# Altium integrated library NXP Microcontrollers ARM7.IntLib: 82 symbols (part 2 of 11)
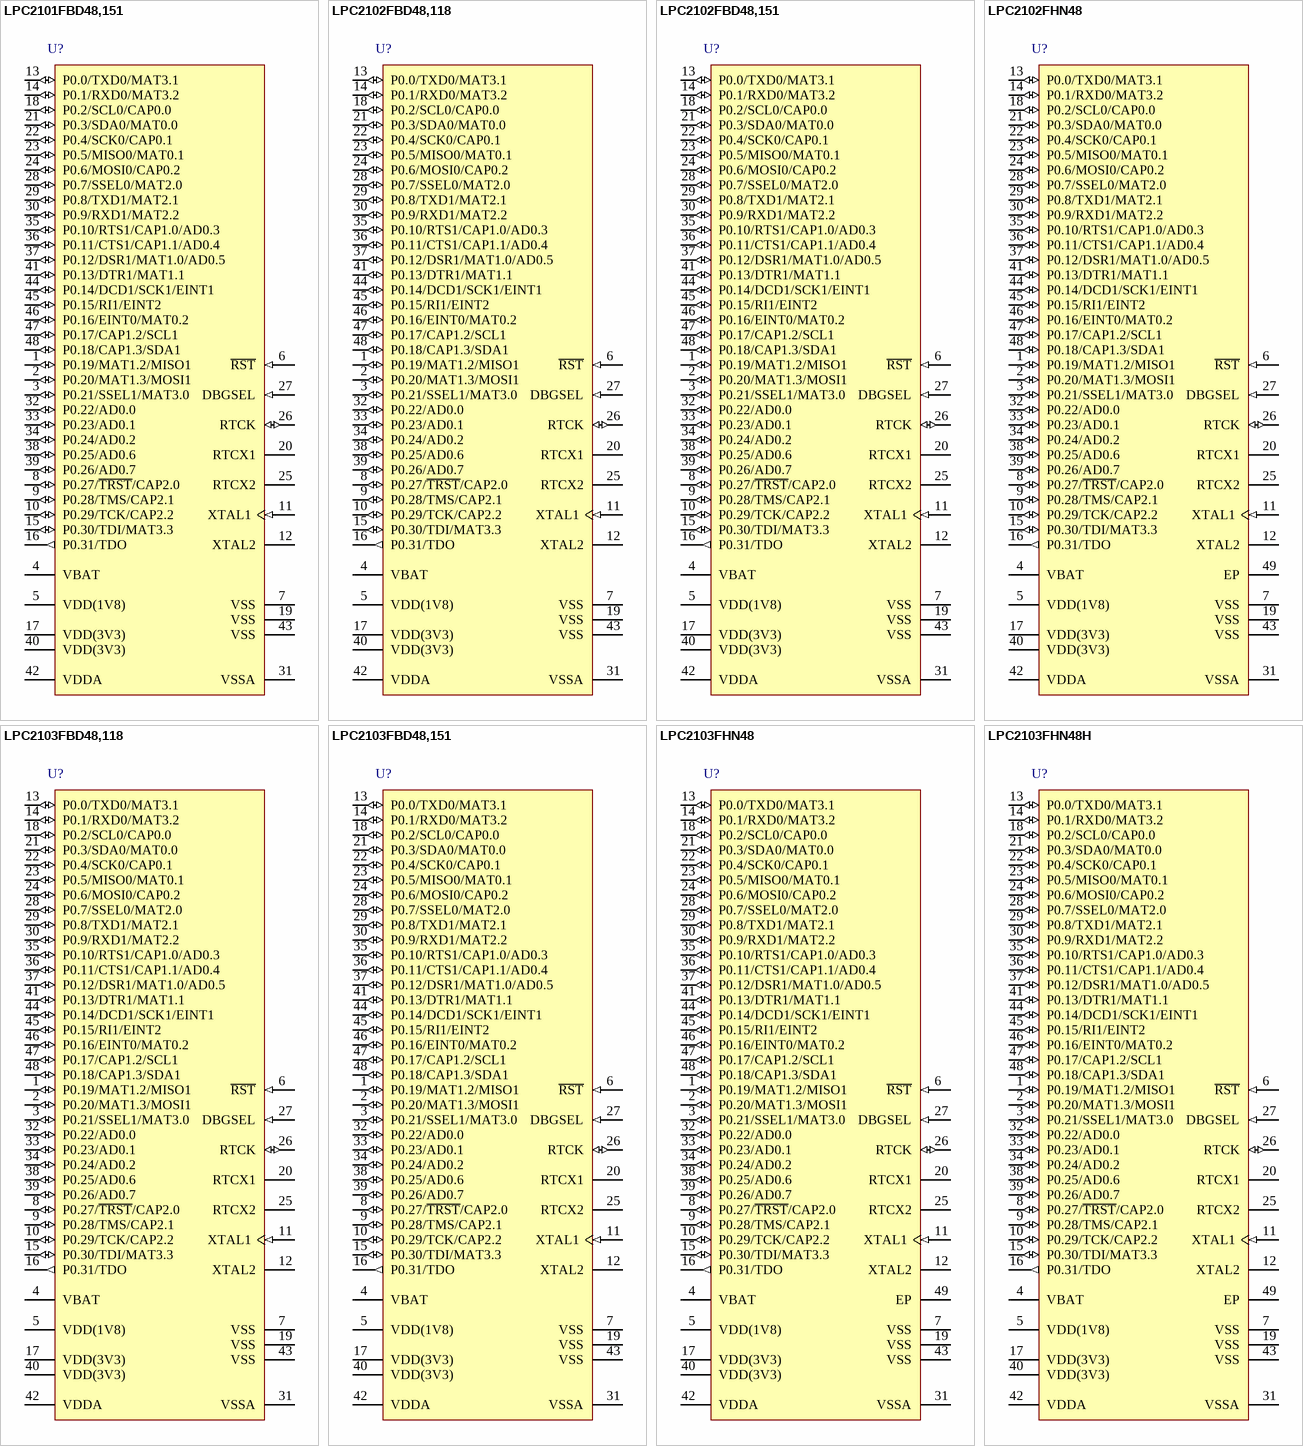
[diagram p36: symbols LPC2101FBD48,151 to LPC2103FHN48H]

## LPC2101FBD48,151
designator U?
16/32-bit ARM7 Microcontroller, 32 I/O, 8 kB Flash, 2 kB SRAM, -40 to 85 degC, 48-Pin LQFP, Tray; Manufacturer: NXP Semiconductors; PartNumber: LPC2101FBD48,151; # of timers: 4; ADC (bits): 10; ADC Channels: 8; fmax [max] (MHz): 70; I/O Pins: 32; I2C: 2; PLL: TRUE; PWM: 14; SPI: 1; Timer (bits): 16/32; DatasheetVersion: Rev. 04; PackageVersion: Feb-03; PackageReference: SOT313-2; PackageDescription: 48-Pin Plastic Low Profile Quad Flat Package, Body 7 x 7 mm, Pitch 0.5 mm; Supplier 1: Digi-Key; Supplier Part Number 1: 568-2092-ND; Supplier 2: Newark; Supplier Part Number 2: 70R5604; Supplier 3: Mouser; Supplier Part Number 3: 771-LPC2101FBD48-S; Core: ARM7; Flash (KB): 8; Packing: Tray; RAM (KB): 2; SSP: 1; UART: 2; Mounting Technology: Surface Mount; Code_JEDEC: MS-026; ComponentLink1Description: Manufacturer URL; ComponentLink1URL: http://www.nxp.com/; ComponentLink2Description: Datasheet; ComponentLink2URL: http://www.nxp.com/documents/data_sheet/LPC2101_02_03.pdf; ComponentLink3Description: Package Specification; ComponentLink3URL: http://www.nxp.com/documents/outline_drawing/sot313-2_po.pdf
footprint NXP-SOT313-2_V (QFP, 48-Leads, Body 7x7mm, Pitch 0.5mm)
pins: 1 P0.19/MAT1.2/MISO1 (io), 2 P0.20/MAT1.3/MOSI1 (io), 3 P0.21/SSEL1/MAT3.0 (io), 4 VBAT (power) "RTC power supply: 3.3 V on this pin supplies the power to the RTC.", 5 VDD(1V8) (power) "1.8 V core power supply: This is the power supply voltage for internal circuitry and the on-chip PLL.", 6 ~{RST} (in) "External reset input: A LOW on this pin resets the device, causing I/O ports and peripherals to take on their default states and processor execution to begin at address 0. TTL with hysteresis, 5 V tolerant.", 7 VSS (power) "Ground: 0 V reference.", 8 P0.27/~{TRST}/CAP2.0 (io), 9 P0.28/TMS/CAP2.1 (io), 10 P0.29/TCK/CAP2.2 (io), 11 XTAL1 (in) "Input to the oscillator circuit and internal clock generator circuits. Input voltage must not exceed 1.8 V.", 12 XTAL2 "Output from the oscillator amplifier.", 13 P0.0/TXD0/MAT3.1 (io), 14 P0.1/RXD0/MAT3.2 (io), 15 P0.30/TDI/MAT3.3 (io), 16 P0.31/TDO (out), 17 VDD(3V3) (power) "3.3 V pad power supply: This is the power supply voltage for the I/O ports.", 18 P0.2/SCL0/CAP0.0 (io), 19 VSS (power) "Ground: 0 V reference.", 20 RTCX1 "Input to the RTC oscillator circuit. Input voltage must not exceed 1.8 V.", 21 P0.3/SDA0/MAT0.0 (io), 22 P0.4/SCK0/CAP0.1 (io), 23 P0.5/MISO0/MAT0.1 (io), 24 P0.6/MOSI0/CAP0.2 (io), 25 RTCX2 "Output from the RTC oscillator circuit.", 26 RTCK (io) "Returned test clock output: Extra signal added to the JTAG port. Assists debugger synchronization when processor frequency varies. Bidirectional pin with internal pull-up.", 27 DBGSEL (in) "Debug select: When LOW, the part operates normally. When externally pulled HIGH at reset, P0.27 to P0.31 are configured as JTAG port, and the part is in Debug mode[9]. Input with internal pull-down.", 28 P0.7/SSEL0/MAT2.0 (io), 29 P0.8/TXD1/MAT2.1 (io), 30 P0.9/RXD1/MAT2.2 (io), 31 VSSA (power) "Analog ground: 0 V reference. This should be nominally the same voltage as VSS but should be isolated to minimize noise and error.", 32 P0.22/AD0.0 (io), 33 P0.23/AD0.1 (io), 34 P0.24/AD0.2 (io), 35 P0.10/RTS1/CAP1.0/AD0.3 (io), 36 P0.11/CTS1/CAP1.1/AD0.4 (io), 37 P0.12/DSR1/MAT1.0/AD0.5 (io), 38 P0.25/AD0.6 (io), 39 P0.26/AD0.7 (io), 40 VDD(3V3) (power) "3.3 V pad power supply: This is the power supply voltage for the I/O ports.", 41 P0.13/DTR1/MAT1.1 (io), 42 VDDA (power) "Analog 3.3 V power supply: This should be nominally the same voltage as VDD(3V3) but should be isolated to minimize noise and error. The level on this pin also provides a voltage reference level for the ADC.", 43 VSS (power) "Ground: 0 V reference.", 44 P0.14/DCD1/SCK1/EINT1 (io), 45 P0.15/RI1/EINT2 (io), 46 P0.16/EINT0/MAT0.2 (io), 47 P0.17/CAP1.2/SCL1 (io), 48 P0.18/CAP1.3/SDA1 (io)

## LPC2102FBD48,118
designator U?
16/32-bit ARM7 Microcontroller, 32 I/O, 16 kB Flash, 4 kB SRAM, -40 to 85 degC, 48-Pin LQFP, Reel; Manufacturer: NXP Semiconductors; PartNumber: LPC2102FBD48,118; # of timers: 4; ADC (bits): 10; ADC Channels: 8; Flash (KB): 16; fmax [max] (MHz): 70; I/O Pins: 32; I2C: 2; PLL: TRUE; PWM: 14; SPI: 1; Timer (bits): 16/32; DatasheetVersion: Rev. 04; PackageVersion: Feb-03; PackageReference: SOT313-2; PackageDescription: 48-Pin Plastic Low Profile Quad Flat Package, Body 7 x 7 mm, Pitch 0.5 mm; Supplier 1: Digi-Key; Supplier Part Number 1: LPC2102FBD48,118-ND; Supplier 2: Mouser; Supplier Part Number 2: 771-LPC2102FBD48118; Core: ARM7; Packing: Reel; RAM (KB): 4; SSP: 1; UART: 2; Mounting Technology: Surface Mount; Code_JEDEC: MS-026; ComponentLink1Description: Manufacturer URL; ComponentLink1URL: http://www.nxp.com/; ComponentLink2Description: Datasheet; ComponentLink2URL: http://www.nxp.com/documents/data_sheet/LPC2101_02_03.pdf; ComponentLink3Description: Package Specification; ComponentLink3URL: http://www.nxp.com/documents/outline_drawing/sot313-2_po.pdf
footprint NXP-SOT313-2_V (QFP, 48-Leads, Body 7x7mm, Pitch 0.5mm)
pins: 1 P0.19/MAT1.2/MISO1 (io), 2 P0.20/MAT1.3/MOSI1 (io), 3 P0.21/SSEL1/MAT3.0 (io), 4 VBAT (power) "RTC power supply: 3.3 V on this pin supplies the power to the RTC.", 5 VDD(1V8) (power) "1.8 V core power supply: This is the power supply voltage for internal circuitry and the on-chip PLL.", 6 ~{RST} (in) "External reset input: A LOW on this pin resets the device, causing I/O ports and peripherals to take on their default states and processor execution to begin at address 0. TTL with hysteresis, 5 V tolerant.", 7 VSS (power) "Ground: 0 V reference.", 8 P0.27/~{TRST}/CAP2.0 (io), 9 P0.28/TMS/CAP2.1 (io), 10 P0.29/TCK/CAP2.2 (io), 11 XTAL1 (in) "Input to the oscillator circuit and internal clock generator circuits. Input voltage must not exceed 1.8 V.", 12 XTAL2 "Output from the oscillator amplifier.", 13 P0.0/TXD0/MAT3.1 (io), 14 P0.1/RXD0/MAT3.2 (io), 15 P0.30/TDI/MAT3.3 (io), 16 P0.31/TDO (out), 17 VDD(3V3) (power) "3.3 V pad power supply: This is the power supply voltage for the I/O ports.", 18 P0.2/SCL0/CAP0.0 (io), 19 VSS (power) "Ground: 0 V reference.", 20 RTCX1 "Input to the RTC oscillator circuit. Input voltage must not exceed 1.8 V.", 21 P0.3/SDA0/MAT0.0 (io), 22 P0.4/SCK0/CAP0.1 (io), 23 P0.5/MISO0/MAT0.1 (io), 24 P0.6/MOSI0/CAP0.2 (io), 25 RTCX2 "Output from the RTC oscillator circuit.", 26 RTCK (io) "Returned test clock output: Extra signal added to the JTAG port. Assists debugger synchronization when processor frequency varies. Bidirectional pin with internal pull-up.", 27 DBGSEL (in) "Debug select: When LOW, the part operates normally. When externally pulled HIGH at reset, P0.27 to P0.31 are configured as JTAG port, and the part is in Debug mode[9]. Input with internal pull-down.", 28 P0.7/SSEL0/MAT2.0 (io), 29 P0.8/TXD1/MAT2.1 (io), 30 P0.9/RXD1/MAT2.2 (io), 31 VSSA (power) "Analog ground: 0 V reference. This should be nominally the same voltage as VSS but should be isolated to minimize noise and error.", 32 P0.22/AD0.0 (io), 33 P0.23/AD0.1 (io), 34 P0.24/AD0.2 (io), 35 P0.10/RTS1/CAP1.0/AD0.3 (io), 36 P0.11/CTS1/CAP1.1/AD0.4 (io), 37 P0.12/DSR1/MAT1.0/AD0.5 (io), 38 P0.25/AD0.6 (io), 39 P0.26/AD0.7 (io), 40 VDD(3V3) (power) "3.3 V pad power supply: This is the power supply voltage for the I/O ports.", 41 P0.13/DTR1/MAT1.1 (io), 42 VDDA (power) "Analog 3.3 V power supply: This should be nominally the same voltage as VDD(3V3) but should be isolated to minimize noise and error. The level on this pin also provides a voltage reference level for the ADC.", 43 VSS (power) "Ground: 0 V reference.", 44 P0.14/DCD1/SCK1/EINT1 (io), 45 P0.15/RI1/EINT2 (io), 46 P0.16/EINT0/MAT0.2 (io), 47 P0.17/CAP1.2/SCL1 (io), 48 P0.18/CAP1.3/SDA1 (io)

## LPC2102FBD48,151
designator U?
16/32-bit ARM7 Microcontroller, 32 I/O, 16 kB Flash, 4 kB SRAM, -40 to 85 degC, 48-Pin LQFP, Tray; Manufacturer: NXP Semiconductors; PartNumber: LPC2102FBD48,151; # of timers: 4; ADC (bits): 10; ADC Channels: 8; Flash (KB): 16; fmax [max] (MHz): 70; I/O Pins: 32; I2C: 2; PLL: TRUE; PWM: 14; SPI: 1; Timer (bits): 16/32; DatasheetVersion: Rev. 04; PackageVersion: Feb-03; PackageReference: SOT313-2; PackageDescription: 48-Pin Plastic Low Profile Quad Flat Package, Body 7 x 7 mm, Pitch 0.5 mm; Supplier 1: Digi-Key; Supplier Part Number 1: 568-2093-ND; Supplier 2: Newark; Supplier Part Number 2: 70R5605; Supplier 3: Mouser; Supplier Part Number 3: 771-LPC2102FBD48-S; Core: ARM7; Packing: Tray; RAM (KB): 4; SSP: 1; UART: 2; Mounting Technology: Surface Mount; Code_JEDEC: MS-026; ComponentLink1Description: Manufacturer URL; ComponentLink1URL: http://www.nxp.com/; ComponentLink2Description: Datasheet; ComponentLink2URL: http://www.nxp.com/documents/data_sheet/LPC2101_02_03.pdf; ComponentLink3Description: Package Specification; ComponentLink3URL: http://www.nxp.com/documents/outline_drawing/sot313-2_po.pdf
footprint NXP-SOT313-2_V (QFP, 48-Leads, Body 7x7mm, Pitch 0.5mm)
pins: 1 P0.19/MAT1.2/MISO1 (io), 2 P0.20/MAT1.3/MOSI1 (io), 3 P0.21/SSEL1/MAT3.0 (io), 4 VBAT (power) "RTC power supply: 3.3 V on this pin supplies the power to the RTC.", 5 VDD(1V8) (power) "1.8 V core power supply: This is the power supply voltage for internal circuitry and the on-chip PLL.", 6 ~{RST} (in) "External reset input: A LOW on this pin resets the device, causing I/O ports and peripherals to take on their default states and processor execution to begin at address 0. TTL with hysteresis, 5 V tolerant.", 7 VSS (power) "Ground: 0 V reference.", 8 P0.27/~{TRST}/CAP2.0 (io), 9 P0.28/TMS/CAP2.1 (io), 10 P0.29/TCK/CAP2.2 (io), 11 XTAL1 (in) "Input to the oscillator circuit and internal clock generator circuits. Input voltage must not exceed 1.8 V.", 12 XTAL2 "Output from the oscillator amplifier.", 13 P0.0/TXD0/MAT3.1 (io), 14 P0.1/RXD0/MAT3.2 (io), 15 P0.30/TDI/MAT3.3 (io), 16 P0.31/TDO (out), 17 VDD(3V3) (power) "3.3 V pad power supply: This is the power supply voltage for the I/O ports.", 18 P0.2/SCL0/CAP0.0 (io), 19 VSS (power) "Ground: 0 V reference.", 20 RTCX1 "Input to the RTC oscillator circuit. Input voltage must not exceed 1.8 V.", 21 P0.3/SDA0/MAT0.0 (io), 22 P0.4/SCK0/CAP0.1 (io), 23 P0.5/MISO0/MAT0.1 (io), 24 P0.6/MOSI0/CAP0.2 (io), 25 RTCX2 "Output from the RTC oscillator circuit.", 26 RTCK (io) "Returned test clock output: Extra signal added to the JTAG port. Assists debugger synchronization when processor frequency varies. Bidirectional pin with internal pull-up.", 27 DBGSEL (in) "Debug select: When LOW, the part operates normally. When externally pulled HIGH at reset, P0.27 to P0.31 are configured as JTAG port, and the part is in Debug mode[9]. Input with internal pull-down.", 28 P0.7/SSEL0/MAT2.0 (io), 29 P0.8/TXD1/MAT2.1 (io), 30 P0.9/RXD1/MAT2.2 (io), 31 VSSA (power) "Analog ground: 0 V reference. This should be nominally the same voltage as VSS but should be isolated to minimize noise and error.", 32 P0.22/AD0.0 (io), 33 P0.23/AD0.1 (io), 34 P0.24/AD0.2 (io), 35 P0.10/RTS1/CAP1.0/AD0.3 (io), 36 P0.11/CTS1/CAP1.1/AD0.4 (io), 37 P0.12/DSR1/MAT1.0/AD0.5 (io), 38 P0.25/AD0.6 (io), 39 P0.26/AD0.7 (io), 40 VDD(3V3) (power) "3.3 V pad power supply: This is the power supply voltage for the I/O ports.", 41 P0.13/DTR1/MAT1.1 (io), 42 VDDA (power) "Analog 3.3 V power supply: This should be nominally the same voltage as VDD(3V3) but should be isolated to minimize noise and error. The level on this pin also provides a voltage reference level for the ADC.", 43 VSS (power) "Ground: 0 V reference.", 44 P0.14/DCD1/SCK1/EINT1 (io), 45 P0.15/RI1/EINT2 (io), 46 P0.16/EINT0/MAT0.2 (io), 47 P0.17/CAP1.2/SCL1 (io), 48 P0.18/CAP1.3/SDA1 (io)

## LPC2102FHN48
designator U?
16/32-bit ARM7 Microcontroller, 32 I/O, 16 kB Flash, 4 kB SRAM, -40 to 85 degC, 48-Pin HVQFN, Tray; Manufacturer: NXP Semiconductors; PartNumber: LPC2102FHN48; # of timers: 4; ADC (bits): 10; ADC Channels: 8; Flash (KB): 16; fmax [max] (MHz): 70; I/O Pins: 32; I2C: 2; PLL: TRUE; PWM: 14; SPI: 1; Timer (bits): 16/32; DatasheetVersion: Rev. 04; PackageVersion: Oct-05; PackageReference: SOT619-7; PackageDescription: 48-Pin Plastic Thermal Enhanced Very Thin Quad Flat Package, Body 7 x 7 mm, Pitch 0.5 mm; Supplier 1: Mouser; Supplier Part Number 1: N/A; Core: ARM7; Packing: Tray; RAM (KB): 4; SSP: 1; UART: 2; Mounting Technology: Surface Mount; Code_JEDEC: MO-220; ComponentLink1Description: Manufacturer URL; ComponentLink1URL: http://www.nxp.com/; ComponentLink2Description: Datasheet; ComponentLink2URL: http://www.nxp.com/documents/data_sheet/LPC2101_02_03.pdf; ComponentLink3Description: Package Specification; ComponentLink3URL: http://www.nxp.com/documents/data_sheet/LPC2101_02_03.pdf
footprint NXP-SOT619-7_N (QFN, 48-Leads, Body 7.1x7.1mm, Pitch 0.5mm, Thermal Pad 3.3x3.3mm, IPC Medium Density)
footprint NXP-SOT619-7_L (QFN, 48-Leads, Body 7.1x7.1mm, Pitch 0.5mm, Thermal Pad 3.3x3.3mm, IPC High Density)
footprint NXP-SOT619-7_M (QFN, 48-Leads, Body 7.1x7.1mm, Pitch 0.5mm, Thermal Pad 3.3x3.3mm, IPC Low Density)
pins: 1 P0.19/MAT1.2/MISO1 (io), 2 P0.20/MAT1.3/MOSI1 (io), 3 P0.21/SSEL1/MAT3.0 (io), 4 VBAT (power) "RTC power supply: 3.3 V on this pin supplies the power to the RTC.", 5 VDD(1V8) (power) "1.8 V core power supply: This is the power supply voltage for internal circuitry and the on-chip PLL.", 6 ~{RST} (in) "External reset input: A LOW on this pin resets the device, causing I/O ports and peripherals to take on their default states and processor execution to begin at address 0. TTL with hysteresis, 5 V tolerant.", 7 VSS (power) "Ground: 0 V reference.", 8 P0.27/~{TRST}/CAP2.0 (io), 9 P0.28/TMS/CAP2.1 (io), 10 P0.29/TCK/CAP2.2 (io), 11 XTAL1 (in) "Input to the oscillator circuit and internal clock generator circuits. Input voltage must not exceed 1.8 V.", 12 XTAL2 "Output from the oscillator amplifier.", 13 P0.0/TXD0/MAT3.1 (io), 14 P0.1/RXD0/MAT3.2 (io), 15 P0.30/TDI/MAT3.3 (io), 16 P0.31/TDO (out), 17 VDD(3V3) (power) "3.3 V pad power supply: This is the power supply voltage for the I/O ports.", 18 P0.2/SCL0/CAP0.0 (io), 19 VSS (power) "Ground: 0 V reference.", 20 RTCX1 "Input to the RTC oscillator circuit. Input voltage must not exceed 1.8 V.", 21 P0.3/SDA0/MAT0.0 (io), 22 P0.4/SCK0/CAP0.1 (io), 23 P0.5/MISO0/MAT0.1 (io), 24 P0.6/MOSI0/CAP0.2 (io), 25 RTCX2 "Output from the RTC oscillator circuit.", 26 RTCK (io) "Returned test clock output: Extra signal added to the JTAG port. Assists debugger synchronization when processor frequency varies. Bidirectional pin with internal pull-up.", 27 DBGSEL (in) "Debug select: When LOW, the part operates normally. When externally pulled HIGH at reset, P0.27 to P0.31 are configured as JTAG port, and the part is in Debug mode[9]. Input with internal pull-down.", 28 P0.7/SSEL0/MAT2.0 (io), 29 P0.8/TXD1/MAT2.1 (io), 30 P0.9/RXD1/MAT2.2 (io), 31 VSSA (power) "Analog ground: 0 V reference. This should be nominally the same voltage as VSS but should be isolated to minimize noise and error.", 32 P0.22/AD0.0 (io), 33 P0.23/AD0.1 (io), 34 P0.24/AD0.2 (io), 35 P0.10/RTS1/CAP1.0/AD0.3 (io), 36 P0.11/CTS1/CAP1.1/AD0.4 (io), 37 P0.12/DSR1/MAT1.0/AD0.5 (io), 38 P0.25/AD0.6 (io), 39 P0.26/AD0.7 (io), 40 VDD(3V3) (power) "3.3 V pad power supply: This is the power supply voltage for the I/O ports.", 41 P0.13/DTR1/MAT1.1 (io), 42 VDDA (power) "Analog 3.3 V power supply: This should be nominally the same voltage as VDD(3V3) but should be isolated to minimize noise and error. The level on this pin also provides a voltage reference level for the ADC.", 43 VSS (power) "Ground: 0 V reference.", 44 P0.14/DCD1/SCK1/EINT1 (io), 45 P0.15/RI1/EINT2 (io), 46 P0.16/EINT0/MAT0.2 (io), 47 P0.17/CAP1.2/SCL1 (io), 48 P0.18/CAP1.3/SDA1 (io), 49 EP

## LPC2103FBD48,118
designator U?
16/32-bit ARM7 Microcontroller, 32 I/O, 32 kB Flash, 8 kB SRAM, -40 to 85 degC, 48-Pin LQFP, Reel; Manufacturer: NXP Semiconductors; PartNumber: LPC2103FBD48,118; # of timers: 4; ADC (bits): 10; ADC Channels: 8; Flash (KB): 32; fmax [max] (MHz): 70; I2C: 2; PLL: TRUE; PWM: 14; SPI: 1; Timer (bits): 16/32; DatasheetVersion: Rev. 04; PackageVersion: Feb-03; PackageReference: SOT313-2; PackageDescription: 48-Pin Plastic Low Profile Quad Flat Package, Body 7 x 7 mm, Pitch 0.5 mm; Supplier 1: Digi-Key; Supplier Part Number 1: LPC2103FBD48,118-ND; Supplier 2: Newark; Supplier Part Number 2: 70R5607; Supplier 3: Mouser; Supplier Part Number 3: 771-LPC2103FBD48118; Core: ARM7; I/O Pins: 32; Packing: Reel; RAM (KB): 8; SSP: 1; UART: 2; Mounting Technology: Surface Mount; Code_JEDEC: MS-026; ComponentLink1Description: Manufacturer URL; ComponentLink1URL: http://www.nxp.com/; ComponentLink2Description: Datasheet; ComponentLink2URL: http://www.nxp.com/documents/data_sheet/LPC2101_02_03.pdf; ComponentLink3Description: Package Specification; ComponentLink3URL: http://www.nxp.com/documents/outline_drawing/sot313-2_po.pdf
footprint NXP-SOT313-2_V (QFP, 48-Leads, Body 7x7mm, Pitch 0.5mm)
pins: 1 P0.19/MAT1.2/MISO1 (io), 2 P0.20/MAT1.3/MOSI1 (io), 3 P0.21/SSEL1/MAT3.0 (io), 4 VBAT (power) "RTC power supply: 3.3 V on this pin supplies the power to the RTC.", 5 VDD(1V8) (power) "1.8 V core power supply: This is the power supply voltage for internal circuitry and the on-chip PLL.", 6 ~{RST} (in) "External reset input: A LOW on this pin resets the device, causing I/O ports and peripherals to take on their default states and processor execution to begin at address 0. TTL with hysteresis, 5 V tolerant.", 7 VSS (power) "Ground: 0 V reference.", 8 P0.27/~{TRST}/CAP2.0 (io), 9 P0.28/TMS/CAP2.1 (io), 10 P0.29/TCK/CAP2.2 (io), 11 XTAL1 (in) "Input to the oscillator circuit and internal clock generator circuits. Input voltage must not exceed 1.8 V.", 12 XTAL2 "Output from the oscillator amplifier.", 13 P0.0/TXD0/MAT3.1 (io), 14 P0.1/RXD0/MAT3.2 (io), 15 P0.30/TDI/MAT3.3 (io), 16 P0.31/TDO (out), 17 VDD(3V3) (power) "3.3 V pad power supply: This is the power supply voltage for the I/O ports.", 18 P0.2/SCL0/CAP0.0 (io), 19 VSS (power) "Ground: 0 V reference.", 20 RTCX1 "Input to the RTC oscillator circuit. Input voltage must not exceed 1.8 V.", 21 P0.3/SDA0/MAT0.0 (io), 22 P0.4/SCK0/CAP0.1 (io), 23 P0.5/MISO0/MAT0.1 (io), 24 P0.6/MOSI0/CAP0.2 (io), 25 RTCX2 "Output from the RTC oscillator circuit.", 26 RTCK (io) "Returned test clock output: Extra signal added to the JTAG port. Assists debugger synchronization when processor frequency varies. Bidirectional pin with internal pull-up.", 27 DBGSEL (in) "Debug select: When LOW, the part operates normally. When externally pulled HIGH at reset, P0.27 to P0.31 are configured as JTAG port, and the part is in Debug mode[9]. Input with internal pull-down.", 28 P0.7/SSEL0/MAT2.0 (io), 29 P0.8/TXD1/MAT2.1 (io), 30 P0.9/RXD1/MAT2.2 (io), 31 VSSA (power) "Analog ground: 0 V reference. This should be nominally the same voltage as VSS but should be isolated to minimize noise and error.", 32 P0.22/AD0.0 (io), 33 P0.23/AD0.1 (io), 34 P0.24/AD0.2 (io), 35 P0.10/RTS1/CAP1.0/AD0.3 (io), 36 P0.11/CTS1/CAP1.1/AD0.4 (io), 37 P0.12/DSR1/MAT1.0/AD0.5 (io), 38 P0.25/AD0.6 (io), 39 P0.26/AD0.7 (io), 40 VDD(3V3) (power) "3.3 V pad power supply: This is the power supply voltage for the I/O ports.", 41 P0.13/DTR1/MAT1.1 (io), 42 VDDA (power) "Analog 3.3 V power supply: This should be nominally the same voltage as VDD(3V3) but should be isolated to minimize noise and error. The level on this pin also provides a voltage reference level for the ADC.", 43 VSS (power) "Ground: 0 V reference.", 44 P0.14/DCD1/SCK1/EINT1 (io), 45 P0.15/RI1/EINT2 (io), 46 P0.16/EINT0/MAT0.2 (io), 47 P0.17/CAP1.2/SCL1 (io), 48 P0.18/CAP1.3/SDA1 (io)

## LPC2103FBD48,151
designator U?
16/32-bit ARM7 Microcontroller, 32 I/O, 32 kB Flash, 8 kB SRAM, -40 to 85 degC, 48-Pin LQFP, Tray; Manufacturer: NXP Semiconductors; PartNumber: LPC2103FBD48,151; # of timers: 4; ADC (bits): 10; ADC Channels: 8; Flash (KB): 32; fmax [max] (MHz): 70; I2C: 2; PLL: TRUE; PWM: 14; SPI: 1; Timer (bits): 16/32; DatasheetVersion: Rev. 04; PackageVersion: Feb-03; PackageReference: SOT313-2; PackageDescription: 48-Pin Plastic Low Profile Quad Flat Package, Body 7 x 7 mm, Pitch 0.5 mm; Supplier 1: Digi-Key; Supplier Part Number 1: 568-2094-ND; Supplier 2: Newark; Supplier Part Number 2: 70R5608; Supplier 3: Mouser; Supplier Part Number 3: 771-LPC2103FBD48-S; Core: ARM7; I/O Pins: 32; Packing: Tray; RAM (KB): 8; SSP: 1; UART: 2; Mounting Technology: Surface Mount; Code_JEDEC: MS-026; ComponentLink1Description: Manufacturer URL; ComponentLink1URL: http://www.nxp.com/; ComponentLink2Description: Datasheet; ComponentLink2URL: http://www.nxp.com/documents/data_sheet/LPC2101_02_03.pdf; ComponentLink3Description: Package Specification; ComponentLink3URL: http://www.nxp.com/documents/outline_drawing/sot313-2_po.pdf
footprint NXP-SOT313-2_V (QFP, 48-Leads, Body 7x7mm, Pitch 0.5mm)
pins: 1 P0.19/MAT1.2/MISO1 (io), 2 P0.20/MAT1.3/MOSI1 (io), 3 P0.21/SSEL1/MAT3.0 (io), 4 VBAT (power) "RTC power supply: 3.3 V on this pin supplies the power to the RTC.", 5 VDD(1V8) (power) "1.8 V core power supply: This is the power supply voltage for internal circuitry and the on-chip PLL.", 6 ~{RST} (in) "External reset input: A LOW on this pin resets the device, causing I/O ports and peripherals to take on their default states and processor execution to begin at address 0. TTL with hysteresis, 5 V tolerant.", 7 VSS (power) "Ground: 0 V reference.", 8 P0.27/~{TRST}/CAP2.0 (io), 9 P0.28/TMS/CAP2.1 (io), 10 P0.29/TCK/CAP2.2 (io), 11 XTAL1 (in) "Input to the oscillator circuit and internal clock generator circuits. Input voltage must not exceed 1.8 V.", 12 XTAL2 "Output from the oscillator amplifier.", 13 P0.0/TXD0/MAT3.1 (io), 14 P0.1/RXD0/MAT3.2 (io), 15 P0.30/TDI/MAT3.3 (io), 16 P0.31/TDO (out), 17 VDD(3V3) (power) "3.3 V pad power supply: This is the power supply voltage for the I/O ports.", 18 P0.2/SCL0/CAP0.0 (io), 19 VSS (power) "Ground: 0 V reference.", 20 RTCX1 "Input to the RTC oscillator circuit. Input voltage must not exceed 1.8 V.", 21 P0.3/SDA0/MAT0.0 (io), 22 P0.4/SCK0/CAP0.1 (io), 23 P0.5/MISO0/MAT0.1 (io), 24 P0.6/MOSI0/CAP0.2 (io), 25 RTCX2 "Output from the RTC oscillator circuit.", 26 RTCK (io) "Returned test clock output: Extra signal added to the JTAG port. Assists debugger synchronization when processor frequency varies. Bidirectional pin with internal pull-up.", 27 DBGSEL (in) "Debug select: When LOW, the part operates normally. When externally pulled HIGH at reset, P0.27 to P0.31 are configured as JTAG port, and the part is in Debug mode[9]. Input with internal pull-down.", 28 P0.7/SSEL0/MAT2.0 (io), 29 P0.8/TXD1/MAT2.1 (io), 30 P0.9/RXD1/MAT2.2 (io), 31 VSSA (power) "Analog ground: 0 V reference. This should be nominally the same voltage as VSS but should be isolated to minimize noise and error.", 32 P0.22/AD0.0 (io), 33 P0.23/AD0.1 (io), 34 P0.24/AD0.2 (io), 35 P0.10/RTS1/CAP1.0/AD0.3 (io), 36 P0.11/CTS1/CAP1.1/AD0.4 (io), 37 P0.12/DSR1/MAT1.0/AD0.5 (io), 38 P0.25/AD0.6 (io), 39 P0.26/AD0.7 (io), 40 VDD(3V3) (power) "3.3 V pad power supply: This is the power supply voltage for the I/O ports.", 41 P0.13/DTR1/MAT1.1 (io), 42 VDDA (power) "Analog 3.3 V power supply: This should be nominally the same voltage as VDD(3V3) but should be isolated to minimize noise and error. The level on this pin also provides a voltage reference level for the ADC.", 43 VSS (power) "Ground: 0 V reference.", 44 P0.14/DCD1/SCK1/EINT1 (io), 45 P0.15/RI1/EINT2 (io), 46 P0.16/EINT0/MAT0.2 (io), 47 P0.17/CAP1.2/SCL1 (io), 48 P0.18/CAP1.3/SDA1 (io)

## LPC2103FHN48
designator U?
16/32-bit ARM7 Microcontroller, 32 I/O, 32 kB Flash, 8 kB SRAM, -40 to 85 degC, 48-Pin HVQFN, Tray; Manufacturer: NXP Semiconductors; PartNumber: LPC2103FHN48; # of timers: 4; ADC (bits): 10; ADC Channels: 8; Flash (KB): 32; fmax [max] (MHz): 70; I2C: 2; PLL: TRUE; PWM: 14; SPI: 1; Timer (bits): 16/32; DatasheetVersion: Rev. 04; PackageVersion: Oct-05; PackageReference: SOT619-7; PackageDescription: 48-Pin Plastic Thermal Enhanced Very Thin Quad Flat Package, Body 7 x 7 mm, Pitch 0.5 mm; Supplier 1: Mouser; Supplier Part Number 1: N/A; Core: ARM7; I/O Pins: 32; Packing: Tray; RAM (KB): 8; SSP: 1; UART: 2; Mounting Technology: Surface Mount; Code_JEDEC: MO-220; ComponentLink1Description: Manufacturer URL; ComponentLink1URL: http://www.nxp.com/; ComponentLink2Description: Datasheet; ComponentLink2URL: http://www.nxp.com/documents/data_sheet/LPC2101_02_03.pdf; ComponentLink3Description: Package Specification; ComponentLink3URL: http://www.nxp.com/documents/data_sheet/LPC2101_02_03.pdf
footprint NXP-SOT619-7_N (QFN, 48-Leads, Body 7.1x7.1mm, Pitch 0.5mm, Thermal Pad 3.3x3.3mm, IPC Medium Density)
footprint NXP-SOT619-7_L (QFN, 48-Leads, Body 7.1x7.1mm, Pitch 0.5mm, Thermal Pad 3.3x3.3mm, IPC High Density)
footprint NXP-SOT619-7_M (QFN, 48-Leads, Body 7.1x7.1mm, Pitch 0.5mm, Thermal Pad 3.3x3.3mm, IPC Low Density)
pins: 1 P0.19/MAT1.2/MISO1 (io), 2 P0.20/MAT1.3/MOSI1 (io), 3 P0.21/SSEL1/MAT3.0 (io), 4 VBAT (power) "RTC power supply: 3.3 V on this pin supplies the power to the RTC.", 5 VDD(1V8) (power) "1.8 V core power supply: This is the power supply voltage for internal circuitry and the on-chip PLL.", 6 ~{RST} (in) "External reset input: A LOW on this pin resets the device, causing I/O ports and peripherals to take on their default states and processor execution to begin at address 0. TTL with hysteresis, 5 V tolerant.", 7 VSS (power) "Ground: 0 V reference.", 8 P0.27/~{TRST}/CAP2.0 (io), 9 P0.28/TMS/CAP2.1 (io), 10 P0.29/TCK/CAP2.2 (io), 11 XTAL1 (in) "Input to the oscillator circuit and internal clock generator circuits. Input voltage must not exceed 1.8 V.", 12 XTAL2 "Output from the oscillator amplifier.", 13 P0.0/TXD0/MAT3.1 (io), 14 P0.1/RXD0/MAT3.2 (io), 15 P0.30/TDI/MAT3.3 (io), 16 P0.31/TDO (out), 17 VDD(3V3) (power) "3.3 V pad power supply: This is the power supply voltage for the I/O ports.", 18 P0.2/SCL0/CAP0.0 (io), 19 VSS (power) "Ground: 0 V reference.", 20 RTCX1 "Input to the RTC oscillator circuit. Input voltage must not exceed 1.8 V.", 21 P0.3/SDA0/MAT0.0 (io), 22 P0.4/SCK0/CAP0.1 (io), 23 P0.5/MISO0/MAT0.1 (io), 24 P0.6/MOSI0/CAP0.2 (io), 25 RTCX2 "Output from the RTC oscillator circuit.", 26 RTCK (io) "Returned test clock output: Extra signal added to the JTAG port. Assists debugger synchronization when processor frequency varies. Bidirectional pin with internal pull-up.", 27 DBGSEL (in) "Debug select: When LOW, the part operates normally. When externally pulled HIGH at reset, P0.27 to P0.31 are configured as JTAG port, and the part is in Debug mode[9]. Input with internal pull-down.", 28 P0.7/SSEL0/MAT2.0 (io), 29 P0.8/TXD1/MAT2.1 (io), 30 P0.9/RXD1/MAT2.2 (io), 31 VSSA (power) "Analog ground: 0 V reference. This should be nominally the same voltage as VSS but should be isolated to minimize noise and error.", 32 P0.22/AD0.0 (io), 33 P0.23/AD0.1 (io), 34 P0.24/AD0.2 (io), 35 P0.10/RTS1/CAP1.0/AD0.3 (io), 36 P0.11/CTS1/CAP1.1/AD0.4 (io), 37 P0.12/DSR1/MAT1.0/AD0.5 (io), 38 P0.25/AD0.6 (io), 39 P0.26/AD0.7 (io), 40 VDD(3V3) (power) "3.3 V pad power supply: This is the power supply voltage for the I/O ports.", 41 P0.13/DTR1/MAT1.1 (io), 42 VDDA (power) "Analog 3.3 V power supply: This should be nominally the same voltage as VDD(3V3) but should be isolated to minimize noise and error. The level on this pin also provides a voltage reference level for the ADC.", 43 VSS (power) "Ground: 0 V reference.", 44 P0.14/DCD1/SCK1/EINT1 (io), 45 P0.15/RI1/EINT2 (io), 46 P0.16/EINT0/MAT0.2 (io), 47 P0.17/CAP1.2/SCL1 (io), 48 P0.18/CAP1.3/SDA1 (io), 49 EP

## LPC2103FHN48H
designator U?
16/32-bit ARM7 Microcontroller, 32 I/O, 32 kB Flash, 8 kB SRAM, -40 to 85 degC, 48-Pin HVQFN, Reel; Manufacturer: NXP Semiconductors; PartNumber: LPC2103FHN48H; # of timers: 4; ADC (bits): 10; ADC Channels: 8; Flash (KB): 32; fmax [max] (MHz): 70; I2C: 2; PLL: TRUE; PWM: 14; SPI: 1; Timer (bits): 16/32; DatasheetVersion: Rev. 04; PackageVersion: Jun-04; PackageReference: SOT778-3; PackageDescription: 48-Pin Plastic Thermal Enhanced Very Thin Quad Flat Package, Body 6 x 6 mm, Pitch 0.4 mm; Core: ARM7; I/O Pins: 32; Packing: Reel; RAM (KB): 8; SSP: 1; UART: 2; Mounting Technology: Surface Mount; ComponentLink1Description: Manufacturer URL; ComponentLink1URL: http://www.nxp.com/; ComponentLink2Description: Datasheet; ComponentLink2URL: http://www.nxp.com/documents/data_sheet/LPC2101_02_03.pdf; ComponentLink3Description: Package Specification; ComponentLink3URL: http://www.nxp.com/documents/outline_drawing/sot778-3_po.pdf
footprint NXP-SOT778-3_N (QFN, 48-Leads, Body 6.1x6.1mm, Pitch 0.4mm, Thermal Pad 3.8x3.8mm, IPC Medium Density)
footprint NXP-SOT778-3_L (QFN, 48-Leads, Body 6.1x6.1mm, Pitch 0.4mm, Thermal Pad 3.8x3.8mm, IPC High Density)
footprint NXP-SOT778-3_M (QFN, 48-Leads, Body 6.1x6.1mm, Pitch 0.4mm, Thermal Pad 3.8x3.8mm, IPC Low Density)
pins: 1 P0.19/MAT1.2/MISO1 (io), 2 P0.20/MAT1.3/MOSI1 (io), 3 P0.21/SSEL1/MAT3.0 (io), 4 VBAT (power) "RTC power supply: 3.3 V on this pin supplies the power to the RTC.", 5 VDD(1V8) (power) "1.8 V core power supply: This is the power supply voltage for internal circuitry and the on-chip PLL.", 6 ~{RST} (in) "External reset input: A LOW on this pin resets the device, causing I/O ports and peripherals to take on their default states and processor execution to begin at address 0. TTL with hysteresis, 5 V tolerant.", 7 VSS (power) "Ground: 0 V reference.", 8 P0.27/~{TRST}/CAP2.0 (io), 9 P0.28/TMS/CAP2.1 (io), 10 P0.29/TCK/CAP2.2 (io), 11 XTAL1 (in) "Input to the oscillator circuit and internal clock generator circuits. Input voltage must not exceed 1.8 V.", 12 XTAL2 "Output from the oscillator amplifier.", 13 P0.0/TXD0/MAT3.1 (io), 14 P0.1/RXD0/MAT3.2 (io), 15 P0.30/TDI/MAT3.3 (io), 16 P0.31/TDO (out), 17 VDD(3V3) (power) "3.3 V pad power supply: This is the power supply voltage for the I/O ports.", 18 P0.2/SCL0/CAP0.0 (io), 19 VSS (power) "Ground: 0 V reference.", 20 RTCX1 "Input to the RTC oscillator circuit. Input voltage must not exceed 1.8 V.", 21 P0.3/SDA0/MAT0.0 (io), 22 P0.4/SCK0/CAP0.1 (io), 23 P0.5/MISO0/MAT0.1 (io), 24 P0.6/MOSI0/CAP0.2 (io), 25 RTCX2 "Output from the RTC oscillator circuit.", 26 RTCK (io) "Returned test clock output: Extra signal added to the JTAG port. Assists debugger synchronization when processor frequency varies. Bidirectional pin with internal pull-up.", 27 DBGSEL (in) "Debug select: When LOW, the part operates normally. When externally pulled HIGH at reset, P0.27 to P0.31 are configured as JTAG port, and the part is in Debug mode[9]. Input with internal pull-down.", 28 P0.7/SSEL0/MAT2.0 (io), 29 P0.8/TXD1/MAT2.1 (io), 30 P0.9/RXD1/MAT2.2 (io), 31 VSSA (power) "Analog ground: 0 V reference. This should be nominally the same voltage as VSS but should be isolated to minimize noise and error.", 32 P0.22/AD0.0 (io), 33 P0.23/AD0.1 (io), 34 P0.24/AD0.2 (io), 35 P0.10/RTS1/CAP1.0/AD0.3 (io), 36 P0.11/CTS1/CAP1.1/AD0.4 (io), 37 P0.12/DSR1/MAT1.0/AD0.5 (io), 38 P0.25/AD0.6 (io), 39 P0.26/AD0.7 (io), 40 VDD(3V3) (power) "3.3 V pad power supply: This is the power supply voltage for the I/O ports.", 41 P0.13/DTR1/MAT1.1 (io), 42 VDDA (power) "Analog 3.3 V power supply: This should be nominally the same voltage as VDD(3V3) but should be isolated to minimize noise and error. The level on this pin also provides a voltage reference level for the ADC.", 43 VSS (power) "Ground: 0 V reference.", 44 P0.14/DCD1/SCK1/EINT1 (io), 45 P0.15/RI1/EINT2 (io), 46 P0.16/EINT0/MAT0.2 (io), 47 P0.17/CAP1.2/SCL1 (io), 48 P0.18/CAP1.3/SDA1 (io), 49 EP

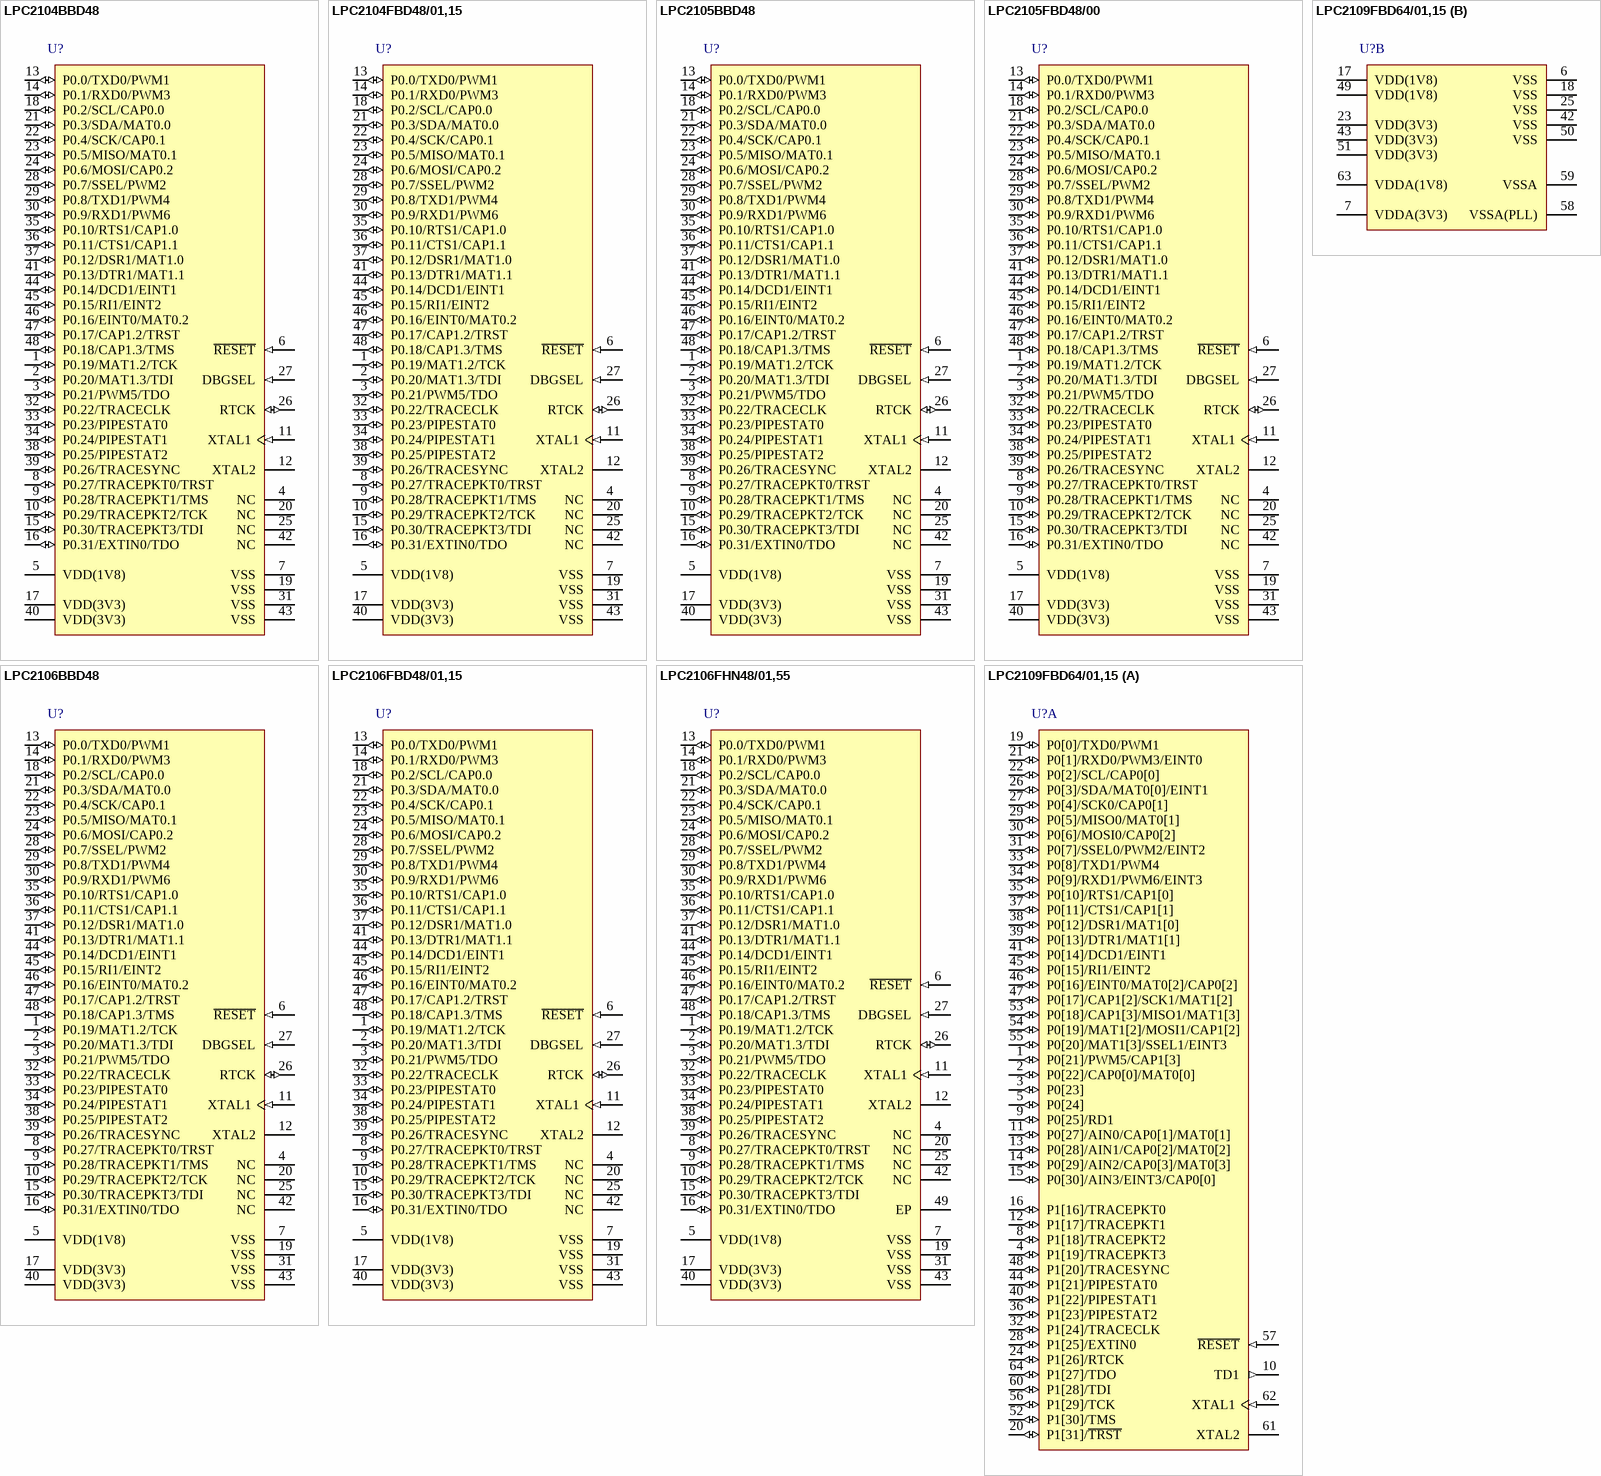
[diagram p5: symbols LPC2104BBD48 to LPC2109FBD64/01,15]

## LPC2104BBD48
designator U?
16/32-bit ARM7 Microcontroller, 32 I/O, 128 kB Flash, 16 kB SRAM, 0 to 70 degC, 48-Pin LQFP, Tray; Manufacturer: NXP Semiconductors; PartNumber: LPC2104BBD48; # of timers: 2; Flash (KB): 128; fmax [max] (MHz): 60; I/O Pins: 32; I2C: 1; PLL: TRUE; PWM: 6; RAM (KB): 16; DatasheetVersion: Rev. 07; PackageVersion: Feb-03; PackageReference: SOT313-2; PackageDescription: 48-Pin Plastic Low Profile Quad Flat Package, Body 7 x 7 mm, Pitch 0.5 mm; Supplier 1: Mouser; Supplier Part Number 1: N/A; Core: ARM7; Packing: Tray; SPI: 1; Timer (bits): 32; UART: 2; Mounting Technology: Surface Mount; Code_JEDEC: MS-026; ComponentLink1Description: Manufacturer URL; ComponentLink1URL: http://www.nxp.com/; ComponentLink2Description: Datasheet; ComponentLink2URL: http://www.nxp.com/documents/data_sheet/LPC2104_2105_2106.pdf; ComponentLink3Description: Package Specification; ComponentLink3URL: http://www.nxp.com/documents/outline_drawing/sot313-2_po.pdf
footprint NXP-SOT313-2_V (QFP, 48-Leads, Body 7x7mm, Pitch 0.5mm)
pins: 1 P0.19/MAT1.2/TCK (io), 2 P0.20/MAT1.3/TDI (io), 3 P0.21/PWM5/TDO (io), 4 NC "not connected; these pins are not connected in the 48-pin package.", 5 VDD(1V8) (power) "1.8 V core power supply; this is the power supply voltage for internal circuitry.", 6 ~{RESET} (in) "external reset input; a LOW on this pin resets the device, causing I/O ports and peripherals to take on their default states, and processor execution to begin at address 0. TTL with hysteresis, 5 V tolerant.", 7 VSS (power) "ground: 0 V reference.", 8 P0.27/TRACEPKT0/TRST (io), 9 P0.28/TRACEPKT1/TMS (io), 10 P0.29/TRACEPKT2/TCK (io), 11 XTAL1 (in) "input to the oscillator circuit and internal clock generator circuits.", 12 XTAL2 "output from the oscillator amplifier.", 13 P0.0/TXD0/PWM1 (io), 14 P0.1/RXD0/PWM3 (io), 15 P0.30/TRACEPKT3/TDI (io), 16 P0.31/EXTIN0/TDO (io), 17 VDD(3V3) (power) "3.3 V pad power supply; this is the power supply voltage for the I/O ports.", 18 P0.2/SCL/CAP0.0 (io), 19 VSS (power) "ground: 0 V reference.", 20 NC "not connected; these pins are not connected in the 48-pin package.", 21 P0.3/SDA/MAT0.0 (io), 22 P0.4/SCK/CAP0.1 (io), 23 P0.5/MISO/MAT0.1 (io), 24 P0.6/MOSI/CAP0.2 (io), 25 NC "not connected; these pins are not connected in the 48-pin package.", 26 RTCK (io) "Returned Test Clock output: Extra signal added to the JTAG port. Assists debugger synchronization when processor frequency varies. Also used during debug mode entry to select primary or secondary JTAG pins with the 48-pin (See Datasheet)", 27 DBGSEL (in) "Debug Select: When LOW, the part operates normally. When HIGH, debug mode is entered. Input pin with internal pull-down.", 28 P0.7/SSEL/PWM2 (io), 29 P0.8/TXD1/PWM4 (io), 30 P0.9/RXD1/PWM6 (io), 31 VSS (power) "ground: 0 V reference.", 32 P0.22/TRACECLK (io), 33 P0.23/PIPESTAT0 (io), 34 P0.24/PIPESTAT1 (io), 35 P0.10/RTS1/CAP1.0 (io), 36 P0.11/CTS1/CAP1.1 (io), 37 P0.12/DSR1/MAT1.0 (io), 38 P0.25/PIPESTAT2 (io), 39 P0.26/TRACESYNC (io), 40 VDD(3V3) (power) "3.3 V pad power supply; this is the power supply voltage for the I/O ports.", 41 P0.13/DTR1/MAT1.1 (io), 42 NC, 43 VSS (power) "ground: 0 V reference.", 44 P0.14/DCD1/EINT1 (io), 45 P0.15/RI1/EINT2 (io), 46 P0.16/EINT0/MAT0.2 (io), 47 P0.17/CAP1.2/TRST (io), 48 P0.18/CAP1.3/TMS (io)

## LPC2104FBD48/01,15
designator U?
16/32-bit ARM7 Microcontroller, 32 I/O, 128 kB Flash, 16 kB SRAM, -40 to 85 degC, 48-Pin LQFP, Tray; Manufacturer: NXP Semiconductors; PartNumber: LPC2104FBD48/01,15; # of timers: 2; Flash (KB): 128; fmax [max] (MHz): 60; I/O Pins: 32; I2C: 1; PLL: TRUE; PWM: 6; RAM (KB): 16; DatasheetVersion: Rev. 07; PackageVersion: Feb-03; PackageReference: SOT313-2; PackageDescription: 48-Pin Plastic Low Profile Quad Flat Package, Body 7 x 7 mm, Pitch 0.5 mm; Supplier 1: Digi-Key; Supplier Part Number 1: 568-4365-ND; Supplier 2: Farnell; Supplier Part Number 2: 2347677; Supplier 3: Newark; Supplier Part Number 3: 70R5611; Supplier 4: Mouser; Supplier Part Number 4: 771-LPC2104FBD48/01S; Core: ARM7; Packing: Tray; SPI: 1; Timer (bits): 32; UART: 2; Mounting Technology: Surface Mount; Code_JEDEC: MS-026; ComponentLink1Description: Manufacturer URL; ComponentLink1URL: http://www.nxp.com/; ComponentLink2Description: Datasheet; ComponentLink2URL: http://www.nxp.com/documents/data_sheet/LPC2104_2105_2106.pdf; ComponentLink3Description: Package Specification; ComponentLink3URL: http://www.nxp.com/documents/outline_drawing/sot313-2_po.pdf
footprint NXP-SOT313-2_V (QFP, 48-Leads, Body 7x7mm, Pitch 0.5mm)
pins: 1 P0.19/MAT1.2/TCK (io), 2 P0.20/MAT1.3/TDI (io), 3 P0.21/PWM5/TDO (io), 4 NC "not connected; these pins are not connected in the 48-pin package.", 5 VDD(1V8) (power) "1.8 V core power supply; this is the power supply voltage for internal circuitry.", 6 ~{RESET} (in) "external reset input; a LOW on this pin resets the device, causing I/O ports and peripherals to take on their default states, and processor execution to begin at address 0. TTL with hysteresis, 5 V tolerant.", 7 VSS (power) "ground: 0 V reference.", 8 P0.27/TRACEPKT0/TRST (io), 9 P0.28/TRACEPKT1/TMS (io), 10 P0.29/TRACEPKT2/TCK (io), 11 XTAL1 (in) "input to the oscillator circuit and internal clock generator circuits.", 12 XTAL2 "output from the oscillator amplifier.", 13 P0.0/TXD0/PWM1 (io), 14 P0.1/RXD0/PWM3 (io), 15 P0.30/TRACEPKT3/TDI (io), 16 P0.31/EXTIN0/TDO (io), 17 VDD(3V3) (power) "3.3 V pad power supply; this is the power supply voltage for the I/O ports.", 18 P0.2/SCL/CAP0.0 (io), 19 VSS (power) "ground: 0 V reference.", 20 NC "not connected; these pins are not connected in the 48-pin package.", 21 P0.3/SDA/MAT0.0 (io), 22 P0.4/SCK/CAP0.1 (io), 23 P0.5/MISO/MAT0.1 (io), 24 P0.6/MOSI/CAP0.2 (io), 25 NC "not connected; these pins are not connected in the 48-pin package.", 26 RTCK (io) "Returned Test Clock output: Extra signal added to the JTAG port. Assists debugger synchronization when processor frequency varies. Also used during debug mode entry to select primary or secondary JTAG pins with the 48-pin (See Datasheet)", 27 DBGSEL (in) "Debug Select: When LOW, the part operates normally. When HIGH, debug mode is entered. Input pin with internal pull-down.", 28 P0.7/SSEL/PWM2 (io), 29 P0.8/TXD1/PWM4 (io), 30 P0.9/RXD1/PWM6 (io), 31 VSS (power) "ground: 0 V reference.", 32 P0.22/TRACECLK (io), 33 P0.23/PIPESTAT0 (io), 34 P0.24/PIPESTAT1 (io), 35 P0.10/RTS1/CAP1.0 (io), 36 P0.11/CTS1/CAP1.1 (io), 37 P0.12/DSR1/MAT1.0 (io), 38 P0.25/PIPESTAT2 (io), 39 P0.26/TRACESYNC (io), 40 VDD(3V3) (power) "3.3 V pad power supply; this is the power supply voltage for the I/O ports.", 41 P0.13/DTR1/MAT1.1 (io), 42 NC, 43 VSS (power) "ground: 0 V reference.", 44 P0.14/DCD1/EINT1 (io), 45 P0.15/RI1/EINT2 (io), 46 P0.16/EINT0/MAT0.2 (io), 47 P0.17/CAP1.2/TRST (io), 48 P0.18/CAP1.3/TMS (io)

## LPC2105BBD48
designator U?
16/32-bit ARM7 Microcontroller, 32 I/O, 128 kB Flash, 32 kB SRAM, 0 to 70 degC, 48-Pin LQFP, Tray; Manufacturer: NXP Semiconductors; PartNumber: LPC2105BBD48; # of timers: 2; Flash (KB): 128; fmax [max] (MHz): 60; I/O Pins: 32; I2C: 1; PLL: TRUE; PWM: 6; DatasheetVersion: Rev. 07; PackageVersion: Feb-03; PackageReference: SOT313-2; PackageDescription: 48-Pin Plastic Low Profile Quad Flat Package, Body 7 x 7 mm, Pitch 0.5 mm; Supplier 1: Mouser; Supplier Part Number 1: N/A; Core: ARM7; Packing: Tray; RAM (KB): 32; SPI: 1; Timer (bits): 32; UART: 2; Mounting Technology: Surface Mount; Code_JEDEC: MS-026; ComponentLink1Description: Manufacturer URL; ComponentLink1URL: http://www.nxp.com/; ComponentLink2Description: Datasheet; ComponentLink2URL: http://www.nxp.com/documents/data_sheet/LPC2104_2105_2106.pdf; ComponentLink3Description: Package Specification; ComponentLink3URL: http://www.nxp.com/documents/outline_drawing/sot313-2_po.pdf
footprint NXP-SOT313-2_V (QFP, 48-Leads, Body 7x7mm, Pitch 0.5mm)
pins: 1 P0.19/MAT1.2/TCK (io), 2 P0.20/MAT1.3/TDI (io), 3 P0.21/PWM5/TDO (io), 4 NC "not connected; these pins are not connected in the 48-pin package.", 5 VDD(1V8) (power) "1.8 V core power supply; this is the power supply voltage for internal circuitry.", 6 ~{RESET} (in) "external reset input; a LOW on this pin resets the device, causing I/O ports and peripherals to take on their default states, and processor execution to begin at address 0. TTL with hysteresis, 5 V tolerant.", 7 VSS (power) "ground: 0 V reference.", 8 P0.27/TRACEPKT0/TRST (io), 9 P0.28/TRACEPKT1/TMS (io), 10 P0.29/TRACEPKT2/TCK (io), 11 XTAL1 (in) "input to the oscillator circuit and internal clock generator circuits.", 12 XTAL2 "output from the oscillator amplifier.", 13 P0.0/TXD0/PWM1 (io), 14 P0.1/RXD0/PWM3 (io), 15 P0.30/TRACEPKT3/TDI (io), 16 P0.31/EXTIN0/TDO (io), 17 VDD(3V3) (power) "3.3 V pad power supply; this is the power supply voltage for the I/O ports.", 18 P0.2/SCL/CAP0.0 (io), 19 VSS (power) "ground: 0 V reference.", 20 NC "not connected; these pins are not connected in the 48-pin package.", 21 P0.3/SDA/MAT0.0 (io), 22 P0.4/SCK/CAP0.1 (io), 23 P0.5/MISO/MAT0.1 (io), 24 P0.6/MOSI/CAP0.2 (io), 25 NC "not connected; these pins are not connected in the 48-pin package.", 26 RTCK (io) "Returned Test Clock output: Extra signal added to the JTAG port. Assists debugger synchronization when processor frequency varies. Also used during debug mode entry to select primary or secondary JTAG pins with the 48-pin (See Datasheet)", 27 DBGSEL (in) "Debug Select: When LOW, the part operates normally. When HIGH, debug mode is entered. Input pin with internal pull-down.", 28 P0.7/SSEL/PWM2 (io), 29 P0.8/TXD1/PWM4 (io), 30 P0.9/RXD1/PWM6 (io), 31 VSS (power) "ground: 0 V reference.", 32 P0.22/TRACECLK (io), 33 P0.23/PIPESTAT0 (io), 34 P0.24/PIPESTAT1 (io), 35 P0.10/RTS1/CAP1.0 (io), 36 P0.11/CTS1/CAP1.1 (io), 37 P0.12/DSR1/MAT1.0 (io), 38 P0.25/PIPESTAT2 (io), 39 P0.26/TRACESYNC (io), 40 VDD(3V3) (power) "3.3 V pad power supply; this is the power supply voltage for the I/O ports.", 41 P0.13/DTR1/MAT1.1 (io), 42 NC, 43 VSS (power) "ground: 0 V reference.", 44 P0.14/DCD1/EINT1 (io), 45 P0.15/RI1/EINT2 (io), 46 P0.16/EINT0/MAT0.2 (io), 47 P0.17/CAP1.2/TRST (io), 48 P0.18/CAP1.3/TMS (io)

## LPC2105FBD48/00
designator U?
16/32-bit ARM7 Microcontroller, 32 I/O, 128 kB Flash, 32 kB SRAM, -40 to 85 degC, 48-Pin LQFP; Manufacturer: NXP Semiconductors; PartNumber: LPC2105FBD48/00; # of timers: 2; Flash (KB): 128; fmax [max] (MHz): 60; I/O Pins: 32; I2C: 1; PLL: TRUE; PWM: 6; DatasheetVersion: Rev. 07; PackageVersion: Feb-03; PackageReference: SOT313-2; PackageDescription: 48-Pin Plastic Low Profile Quad Flat Package, Body 7 x 7 mm, Pitch 0.5 mm; Core: ARM7; RAM (KB): 32; SPI: 1; Timer (bits): 32; UART: 2; Mounting Technology: Surface Mount; Code_JEDEC: MS-026; ComponentLink1Description: Manufacturer URL; ComponentLink1URL: http://www.nxp.com/; ComponentLink2Description: Datasheet; ComponentLink2URL: http://www.nxp.com/documents/data_sheet/LPC2104_2105_2106.pdf; ComponentLink3Description: Package Specification; ComponentLink3URL: http://www.nxp.com/documents/outline_drawing/sot313-2_po.pdf
footprint NXP-SOT313-2_V (QFP, 48-Leads, Body 7x7mm, Pitch 0.5mm)
pins: 1 P0.19/MAT1.2/TCK (io), 2 P0.20/MAT1.3/TDI (io), 3 P0.21/PWM5/TDO (io), 4 NC "not connected; these pins are not connected in the 48-pin package.", 5 VDD(1V8) (power) "1.8 V core power supply; this is the power supply voltage for internal circuitry.", 6 ~{RESET} (in) "external reset input; a LOW on this pin resets the device, causing I/O ports and peripherals to take on their default states, and processor execution to begin at address 0. TTL with hysteresis, 5 V tolerant.", 7 VSS (power) "ground: 0 V reference.", 8 P0.27/TRACEPKT0/TRST (io), 9 P0.28/TRACEPKT1/TMS (io), 10 P0.29/TRACEPKT2/TCK (io), 11 XTAL1 (in) "input to the oscillator circuit and internal clock generator circuits.", 12 XTAL2 "output from the oscillator amplifier.", 13 P0.0/TXD0/PWM1 (io), 14 P0.1/RXD0/PWM3 (io), 15 P0.30/TRACEPKT3/TDI (io), 16 P0.31/EXTIN0/TDO (io), 17 VDD(3V3) (power) "3.3 V pad power supply; this is the power supply voltage for the I/O ports.", 18 P0.2/SCL/CAP0.0 (io), 19 VSS (power) "ground: 0 V reference.", 20 NC "not connected; these pins are not connected in the 48-pin package.", 21 P0.3/SDA/MAT0.0 (io), 22 P0.4/SCK/CAP0.1 (io), 23 P0.5/MISO/MAT0.1 (io), 24 P0.6/MOSI/CAP0.2 (io), 25 NC "not connected; these pins are not connected in the 48-pin package.", 26 RTCK (io) "Returned Test Clock output: Extra signal added to the JTAG port. Assists debugger synchronization when processor frequency varies. Also used during debug mode entry to select primary or secondary JTAG pins with the 48-pin (See Datasheet)", 27 DBGSEL (in) "Debug Select: When LOW, the part operates normally. When HIGH, debug mode is entered. Input pin with internal pull-down.", 28 P0.7/SSEL/PWM2 (io), 29 P0.8/TXD1/PWM4 (io), 30 P0.9/RXD1/PWM6 (io), 31 VSS (power) "ground: 0 V reference.", 32 P0.22/TRACECLK (io), 33 P0.23/PIPESTAT0 (io), 34 P0.24/PIPESTAT1 (io), 35 P0.10/RTS1/CAP1.0 (io), 36 P0.11/CTS1/CAP1.1 (io), 37 P0.12/DSR1/MAT1.0 (io), 38 P0.25/PIPESTAT2 (io), 39 P0.26/TRACESYNC (io), 40 VDD(3V3) (power) "3.3 V pad power supply; this is the power supply voltage for the I/O ports.", 41 P0.13/DTR1/MAT1.1 (io), 42 NC, 43 VSS (power) "ground: 0 V reference.", 44 P0.14/DCD1/EINT1 (io), 45 P0.15/RI1/EINT2 (io), 46 P0.16/EINT0/MAT0.2 (io), 47 P0.17/CAP1.2/TRST (io), 48 P0.18/CAP1.3/TMS (io)

## LPC2106BBD48
designator U?
16/32-bit ARM7 Microcontroller, 32 I/O, 128 kB Flash, 64 kB SRAM, 0 to 70 degC, 48-Pin LQFP, Tray; Manufacturer: NXP Semiconductors; PartNumber: LPC2106BBD48; # of timers: 2; Flash (KB): 128; fmax [max] (MHz): 60; I/O Pins: 32; I2C: 1; PLL: TRUE; PWM: 6; RAM (KB): 64; DatasheetVersion: Rev. 07; PackageVersion: Feb-03; PackageReference: SOT313-2; PackageDescription: 48-Pin Plastic Low Profile Quad Flat Package, Body 7 x 7 mm, Pitch 0.5 mm; Supplier 1: Mouser; Supplier Part Number 1: N/A; Core: ARM7; Packing: Tray; SPI: 1; Timer (bits): 32; UART: 2; Mounting Technology: Surface Mount; Code_JEDEC: MS-026; ComponentLink1Description: Manufacturer URL; ComponentLink1URL: http://www.nxp.com/; ComponentLink2Description: Datasheet; ComponentLink2URL: http://www.nxp.com/documents/data_sheet/LPC2104_2105_2106.pdf; ComponentLink3Description: Package Specification; ComponentLink3URL: http://www.nxp.com/documents/outline_drawing/sot313-2_po.pdf
footprint NXP-SOT313-2_V (QFP, 48-Leads, Body 7x7mm, Pitch 0.5mm)
pins: 1 P0.19/MAT1.2/TCK (io), 2 P0.20/MAT1.3/TDI (io), 3 P0.21/PWM5/TDO (io), 4 NC "not connected; these pins are not connected in the 48-pin package.", 5 VDD(1V8) (power) "1.8 V core power supply; this is the power supply voltage for internal circuitry.", 6 ~{RESET} (in) "external reset input; a LOW on this pin resets the device, causing I/O ports and peripherals to take on their default states, and processor execution to begin at address 0. TTL with hysteresis, 5 V tolerant.", 7 VSS (power) "ground: 0 V reference.", 8 P0.27/TRACEPKT0/TRST (io), 9 P0.28/TRACEPKT1/TMS (io), 10 P0.29/TRACEPKT2/TCK (io), 11 XTAL1 (in) "input to the oscillator circuit and internal clock generator circuits.", 12 XTAL2 "output from the oscillator amplifier.", 13 P0.0/TXD0/PWM1 (io), 14 P0.1/RXD0/PWM3 (io), 15 P0.30/TRACEPKT3/TDI (io), 16 P0.31/EXTIN0/TDO (io), 17 VDD(3V3) (power) "3.3 V pad power supply; this is the power supply voltage for the I/O ports.", 18 P0.2/SCL/CAP0.0 (io), 19 VSS (power) "ground: 0 V reference.", 20 NC "not connected; these pins are not connected in the 48-pin package.", 21 P0.3/SDA/MAT0.0 (io), 22 P0.4/SCK/CAP0.1 (io), 23 P0.5/MISO/MAT0.1 (io), 24 P0.6/MOSI/CAP0.2 (io), 25 NC "not connected; these pins are not connected in the 48-pin package.", 26 RTCK (io) "Returned Test Clock output: Extra signal added to the JTAG port. Assists debugger synchronization when processor frequency varies. Also used during debug mode entry to select primary or secondary JTAG pins with the 48-pin (See Datasheet)", 27 DBGSEL (in) "Debug Select: When LOW, the part operates normally. When HIGH, debug mode is entered. Input pin with internal pull-down.", 28 P0.7/SSEL/PWM2 (io), 29 P0.8/TXD1/PWM4 (io), 30 P0.9/RXD1/PWM6 (io), 31 VSS (power) "ground: 0 V reference.", 32 P0.22/TRACECLK (io), 33 P0.23/PIPESTAT0 (io), 34 P0.24/PIPESTAT1 (io), 35 P0.10/RTS1/CAP1.0 (io), 36 P0.11/CTS1/CAP1.1 (io), 37 P0.12/DSR1/MAT1.0 (io), 38 P0.25/PIPESTAT2 (io), 39 P0.26/TRACESYNC (io), 40 VDD(3V3) (power) "3.3 V pad power supply; this is the power supply voltage for the I/O ports.", 41 P0.13/DTR1/MAT1.1 (io), 42 NC, 43 VSS (power) "ground: 0 V reference.", 44 P0.14/DCD1/EINT1 (io), 45 P0.15/RI1/EINT2 (io), 46 P0.16/EINT0/MAT0.2 (io), 47 P0.17/CAP1.2/TRST (io), 48 P0.18/CAP1.3/TMS (io)